# EAGLE library part AT25* (library memory-atmel)
EEPROM SPI bus serial
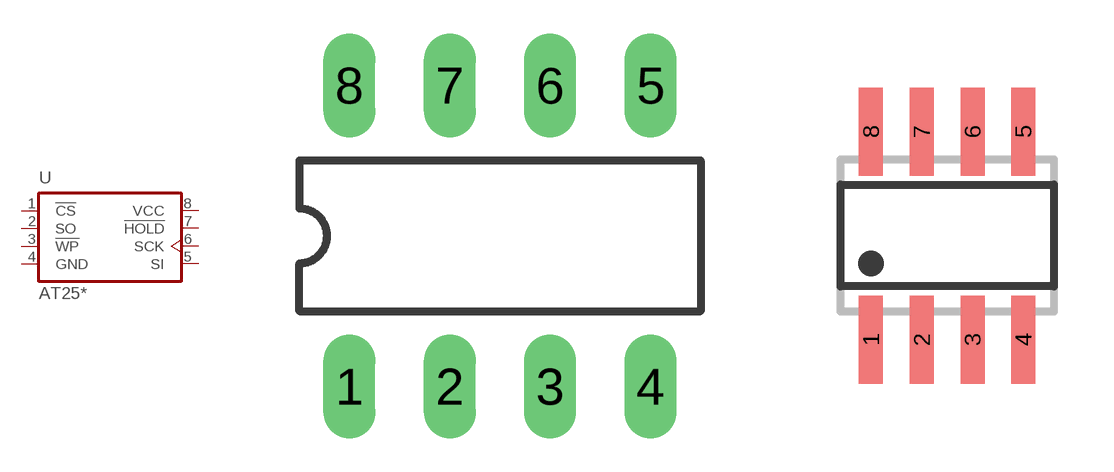
[diagram p6: symbol with the pads of DIL08; footprints DIL08, SO08-8S1]

Designator prefix U

## AT25P  [DIL08]
1  !CS!  in
2  SO  out
3  !WP!  in
4  GND  pwr
5  SI  in
6  SCK  in
7  !HOLD!  in
8  VCC  pwr

## AT25-SO  [SO08-8S1]
Pads as for DIL08

## Footprint DIL08 (pad centres in mm)
Dual In Line Package
drill 0.813 long: 1 -3.81,-3.81; 2 -1.27,-3.81; 3 1.27,-3.81; 4 3.81,-3.81; 5 3.81,3.81; 6 1.27,3.81; 7 -1.27,3.81; 8 -3.81,3.81

## Footprint SO08-8S1 (pad centres in mm)
SMALL OUTLINE INTEGRATED CIRCUIT 8S1, body 3.9 mm/JEDEC MS-012AA
smd 0.6 x 2.2: 1 -1.905,-2.6; 2 -0.635,-2.6; 3 0.635,-2.6; 4 1.905,-2.6; 5 1.905,2.6; 6 0.635,2.6; 7 -0.635,2.6; 8 -1.905,2.6